# Altium schematic symbol library Transistor.SchLib: 4 symbols
Pins are listed as number, name and electrical type; pins without a type are passive.

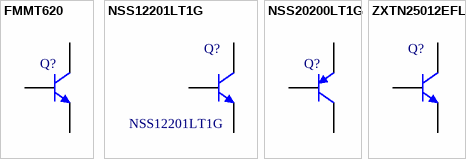
[diagram p0: symbols FMMT620 to ZXTN25012EFL]

## FMMT620
designator Q?  (value not drawn)
FMMT620 NPN; Manufacturer 1: DIODES INC.; Manufacturer Part Number: FMMT620TA; ComponentLink1Description: http://www.diodes.com/datasheets/FMMT620.pdf; ComponentLink1URL: http://www.diodes.com/datasheets/FMMT620.pdf; Supplier 1: Farnell; Supplier Part Number 1: 2061449
footprint SOT-23
pins: 1 B, 2 E, 3 C

## NSS12201LT1G
designator Q?
Bipolar (BJT) Transistor NPN 12V 2A 150MHz 460mW Surface Mount SOT-23-3 (TO-236); Manufacturer 1: ON SEMICONDUCTOR; ComponentLink1Description: References; ComponentLink1URL: http://www.farnell.com/datasheets/2353901.pdf; Supplier 1: Farnell; Supplier Part Number 1: 2535657; Manufacturer Part Number: NSS12201LT1G
footprint SOT-23
pins: 1 B, 2 E, 3 C

## NSS20200LT1G
designator Q?  (value not drawn)
NSS20200LT1G PNP; Manufacturer 1: ON SEMICONDUCTOR; ComponentLink1Description: http://www.onsemi.com/pub_link/Collateral/NSS20200L-D.PDF; ComponentLink1URL: http://www.onsemi.com/pub_link/Collateral/NSS20200L-D.PDF; Supplier 1: Farnell; Supplier Part Number 1: 1887110; Manufacturer Part Number: NSS20200LT1G
footprint SOT-23
pins: 1 B, 2 E, 3 C

## ZXTN25012EFL
designator Q?  (value not drawn)
ZXTN25012EFL NPN; Manufacturer 1: DIODES INC.; Manufacturer Part Number: ZXTN25012EFLT; ComponentLink1Description: http://www.farnell.com/datasheets/13275.pdf; ComponentLink1URL: http://www.farnell.com/datasheets/13275.pdf; Supplier 1: Farnell; Supplier Part Number 1: 1471182
footprint SOT-23
pins: 1 B, 2 E, 3 C